# Altium footprint library BLOCK3.PcbLib: 1 footprints
Each footprint in its own frame and in the unit in brackets; x right, y up, seen from the top. Pads: shape width x height; smd on the part's side, far side on the other; paste and mask are expansions set on the pad; w line width, h text height; cw(c..) or ccw(c..) is an arc to the next point about the centre after c.
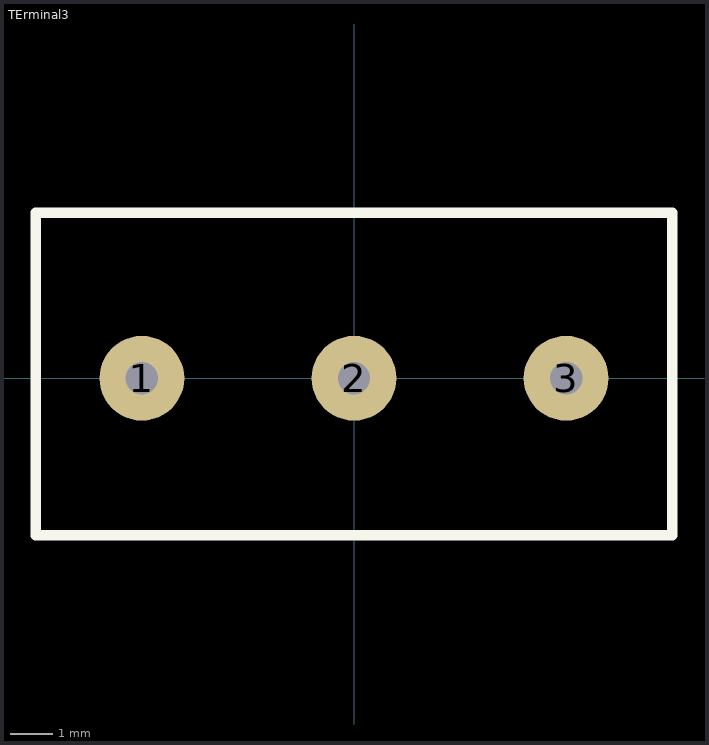
[diagram p0: the footprint, top view; thin cyan lines are the x and y axes]

## TErminal3 [mm]
pads (3):
  round 2 hole 0.762: 1(-5,0) 2(0,0) 3(5,0)
Top Overlay:
  lines w0.254: -7.5,-3.7 -7.5,3.9 7.5,3.9 7.5,-3.7 -7.5,-3.7